# Altium integrated library AD Power Mgt DC-DC Converter.IntLib: 16 symbols
Pins are listed as number, name and electrical type; pins without a type are passive.

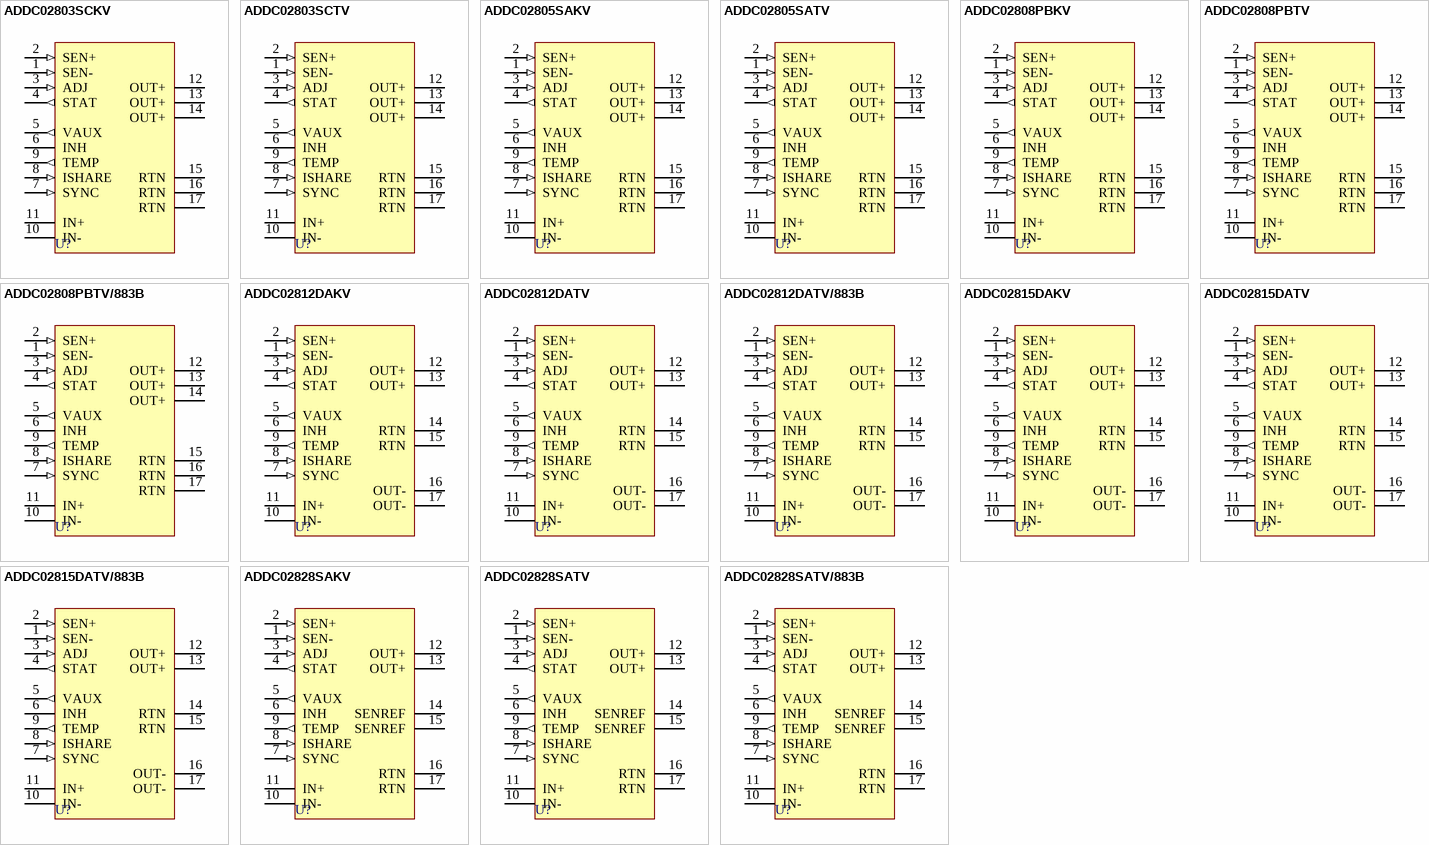
[diagram p0: symbols ADDC02803SCKV to ADDC02828SATV/883B]

## ADDC02803SCKV
designator U?
28 V/66 W/100 W DC/DC Converter with Integral EMI Filter; Published: 8-Jun-2000; LatestRevisionDate: 17-Jul-2002; LatestRevisionNote: Re-released for DXP Platform.; DatasheetVersion: REV.0 1997; PackageReference: DFM-W17; Publisher: Altium Limited; PackageDescription: DC/DC Converter; 17 pins; Body 70 x 38 mm; ComponentLink1Description: Manufacturer Link; ComponentLink1URL: http://www.analog.com/; ComponentLink2Description: Discontinuation Notice; ComponentLink2URL: http://www.analog.com/en/prod/0%2C2877%2CADDC02803SC%2C00.html
footprint DFM-W17 (DC/DC Converter; 17 pins; Body 70 x 38 mm)
pins: 1 SEN- (in), 2 SEN+ (in), 3 ADJ (in), 4 STAT (out), 5 VAUX (out), 6 INH, 7 SYNC (in), 8 ISHARE (in), 9 TEMP (out), 10 IN- (power), 11 IN+ (power), 12 OUT+ (power), 13 OUT+ (power), 14 OUT+ (power), 15 RTN (power), 16 RTN (power), 17 RTN (power)

## ADDC02803SCTV
designator U?
28 V/66 W/100 W DC/DC Converter with Integral EMI Filter; Published: 8-Jun-2000; LatestRevisionDate: 17-Jul-2002; LatestRevisionNote: Re-released for DXP Platform.; DatasheetVersion: REV.0 1997; PackageReference: DFM-W17; Publisher: Altium Limited; PackageDescription: DC/DC Converter; 17 pins; Body 70 x 38 mm; ComponentLink1Description: Manufacturer Link; ComponentLink1URL: http://www.analog.com/; ComponentLink2Description: Discontinuation Notice; ComponentLink2URL: http://www.analog.com/en/prod/0%2C2877%2CADDC02803SC%2C00.html
footprint DFM-W17 (DC/DC Converter; 17 pins; Body 70 x 38 mm)
pins: 1 SEN- (in), 2 SEN+ (in), 3 ADJ (in), 4 STAT (out), 5 VAUX (out), 6 INH, 7 SYNC (in), 8 ISHARE (in), 9 TEMP (out), 10 IN- (power), 11 IN+ (power), 12 OUT+ (power), 13 OUT+ (power), 14 OUT+ (power), 15 RTN (power), 16 RTN (power), 17 RTN (power)

## ADDC02805SAKV
designator U?
28 V/66 W/100 W DC/DC Converter with Integral EMI Filter; Published: 8-Jun-2000; LatestRevisionDate: 17-Jul-2002; LatestRevisionNote: Re-released for DXP Platform.; DatasheetVersion: REV.0 1997; PackageReference: DFM-W17; Publisher: Altium Limited; PackageDescription: DC/DC Converter; 17 pins; Body 70 x 38 mm; ComponentLink1Description: Manufacturer Link; ComponentLink1URL: http://www.analog.com/; ComponentLink2Description: Discontinuation Notice; ComponentLink2URL: http://www.analog.com/en/prod/0%2C2877%2CADDC02803SC%2C00.html
footprint DFM-W17 (DC/DC Converter; 17 pins; Body 70 x 38 mm)
pins: 1 SEN- (in), 2 SEN+ (in), 3 ADJ (in), 4 STAT (out), 5 VAUX (out), 6 INH, 7 SYNC (in), 8 ISHARE (in), 9 TEMP (out), 10 IN- (power), 11 IN+ (power), 12 OUT+ (power), 13 OUT+ (power), 14 OUT+ (power), 15 RTN (power), 16 RTN (power), 17 RTN (power)

## ADDC02805SATV
designator U?
28 V/66 W/100 W DC/DC Converter with Integral EMI Filter; Published: 8-Jun-2000; LatestRevisionDate: 17-Jul-2002; LatestRevisionNote: Re-released for DXP Platform.; DatasheetVersion: REV.0 1997; PackageReference: DFM-W17; Publisher: Altium Limited; PackageDescription: DC/DC Converter; 17 pins; Body 70 x 38 mm; ComponentLink1Description: Manufacturer Link; ComponentLink1URL: http://www.analog.com/; ComponentLink2Description: Discontinuation Notice; ComponentLink2URL: http://www.analog.com/en/prod/0%2C2877%2CADDC02803SC%2C00.html
footprint DFM-W17 (DC/DC Converter; 17 pins; Body 70 x 38 mm)
pins: 1 SEN- (in), 2 SEN+ (in), 3 ADJ (in), 4 STAT (out), 5 VAUX (out), 6 INH, 7 SYNC (in), 8 ISHARE (in), 9 TEMP (out), 10 IN- (power), 11 IN+ (power), 12 OUT+ (power), 13 OUT+ (power), 14 OUT+ (power), 15 RTN (power), 16 RTN (power), 17 RTN (power)

## ADDC02808PBKV
designator U?
28V, 200 W Pulsed DC/DC Converter with Integral EMI Filter; Published: 8-Jun-2000; LatestRevisionDate: 17-Jul-2002; LatestRevisionNote: Re-released for DXP Platform.; DatasheetVersion: REV.0 1996; PackageReference: DFM-W17; Publisher: Altium Limited; PackageDescription: DC/DC Converter; 17 pins; Body 70 x 38 mm; ComponentLink1Description: Manufacturer Link; ComponentLink1URL: http://www.analog.com/; ComponentLink2Description: Datasheet; ComponentLink2URL: http://www.analog.com/UploadedFiles/Obsolete_Data_Sheets/1352261ADDC02808OPB.pdf; ComponentLink3Description: Discontinuation Notice; ComponentLink3URL: http://www.analog.com/en/prod/0%2C2877%2CADDC02808PB%2C00.html
footprint DFM-W17 (DC/DC Converter; 17 pins; Body 70 x 38 mm)
pins: 1 SEN- (in), 2 SEN+ (in), 3 ADJ (in), 4 STAT (out), 5 VAUX (out), 6 INH, 7 SYNC (in), 8 ISHARE (in), 9 TEMP (out), 10 IN- (power), 11 IN+ (power), 12 OUT+ (power), 13 OUT+ (power), 14 OUT+ (power), 15 RTN (power), 16 RTN (power), 17 RTN (power)

## ADDC02808PBTV
designator U?
28V, 200 W Pulsed DC/DC Converter with Integral EMI Filter; Published: 8-Jun-2000; LatestRevisionDate: 17-Jul-2002; LatestRevisionNote: Re-released for DXP Platform.; DatasheetVersion: REV.0 1996; PackageReference: DFM-W17; Publisher: Altium Limited; PackageDescription: DC/DC Converter; 17 pins; Body 70 x 38 mm; ComponentLink1Description: Manufacturer Link; ComponentLink1URL: http://www.analog.com/; ComponentLink2Description: Datasheet; ComponentLink2URL: http://www.analog.com/UploadedFiles/Obsolete_Data_Sheets/1352261ADDC02808OPB.pdf; ComponentLink3Description: Discontinuation Notice; ComponentLink3URL: http://www.analog.com/en/prod/0%2C2877%2CADDC02808PB%2C00.html
footprint DFM-W17 (DC/DC Converter; 17 pins; Body 70 x 38 mm)
pins: 1 SEN- (in), 2 SEN+ (in), 3 ADJ (in), 4 STAT (out), 5 VAUX (out), 6 INH, 7 SYNC (in), 8 ISHARE (in), 9 TEMP (out), 10 IN- (power), 11 IN+ (power), 12 OUT+ (power), 13 OUT+ (power), 14 OUT+ (power), 15 RTN (power), 16 RTN (power), 17 RTN (power)

## ADDC02808PBTV/883B
designator U?
28V, 200 W Pulsed DC/DC Converter with Integral EMI Filter; Published: 8-Jun-2000; LatestRevisionDate: 17-Jul-2002; LatestRevisionNote: Re-released for DXP Platform.; DatasheetVersion: REV.0 1996; PackageReference: DFM-W17; Publisher: Altium Limited; PackageDescription: DC/DC Converter; 17 pins; Body 70 x 38 mm; ComponentLink1Description: Manufacturer Link; ComponentLink1URL: http://www.analog.com/; ComponentLink2Description: Datasheet; ComponentLink2URL: http://www.analog.com/UploadedFiles/Obsolete_Data_Sheets/1352261ADDC02808OPB.pdf; ComponentLink3Description: Discontinuation Notice; ComponentLink3URL: http://www.analog.com/en/prod/0%2C2877%2CADDC02808PB%2C00.html
footprint DFM-W17 (DC/DC Converter; 17 pins; Body 70 x 38 mm)
pins: 1 SEN- (in), 2 SEN+ (in), 3 ADJ (in), 4 STAT (out), 5 VAUX (out), 6 INH, 7 SYNC (in), 8 ISHARE (in), 9 TEMP (out), 10 IN- (power), 11 IN+ (power), 12 OUT+ (power), 13 OUT+ (power), 14 OUT+ (power), 15 RTN (power), 16 RTN (power), 17 RTN (power)

## ADDC02812DAKV
designator U?
28 V/100 W DC/DC Converter with Integral EMI Filter; Published: 8-Jun-2000; LatestRevisionDate: 17-Jul-2002; LatestRevisionNote: Re-released for DXP Platform.; DatasheetVersion: REV.A 1997; PackageReference: DFM-W17; Publisher: Altium Limited; PackageDescription: DC/DC Converter; 17 pins; Body 70 x 38 mm; ComponentLink1Description: Manufacturer Link; ComponentLink1URL: http://www.analog.com/; ComponentLink2Description: Datasheet; ComponentLink2URL: http://www.analog.com/UploadedFiles/Obsolete_Data_Sheets/416164ADDC02815DA.pdf; ComponentLink3Description: Discontinuation Notice; ComponentLink3URL: http://www.analog.com/en/prod/0%2C2877%2CADDC02815DA%2C00.html
footprint DFM-W17 (DC/DC Converter; 17 pins; Body 70 x 38 mm)
pins: 1 SEN- (in), 2 SEN+ (in), 3 ADJ (in), 4 STAT (out), 5 VAUX (out), 6 INH, 7 SYNC (in), 8 ISHARE (in), 9 TEMP (out), 10 IN- (power), 11 IN+ (power), 12 OUT+ (power), 13 OUT+ (power), 14 RTN (power), 15 RTN (power), 16 OUT- (power), 17 OUT- (power)

## ADDC02812DATV
designator U?
28 V/100 W DC/DC Converter with Integral EMI Filter; Published: 8-Jun-2000; LatestRevisionDate: 17-Jul-2002; LatestRevisionNote: Re-released for DXP Platform.; DatasheetVersion: REV.A 1997; PackageReference: DFM-W17; Publisher: Altium Limited; PackageDescription: DC/DC Converter; 17 pins; Body 70 x 38 mm; ComponentLink1Description: Manufacturer Link; ComponentLink1URL: http://www.analog.com/; ComponentLink2Description: Datasheet; ComponentLink2URL: http://www.analog.com/UploadedFiles/Obsolete_Data_Sheets/416164ADDC02815DA.pdf; ComponentLink3Description: Discontinuation Notice; ComponentLink3URL: http://www.analog.com/en/prod/0%2C2877%2CADDC02815DA%2C00.html
footprint DFM-W17 (DC/DC Converter; 17 pins; Body 70 x 38 mm)
pins: 1 SEN- (in), 2 SEN+ (in), 3 ADJ (in), 4 STAT (out), 5 VAUX (out), 6 INH, 7 SYNC (in), 8 ISHARE (in), 9 TEMP (out), 10 IN- (power), 11 IN+ (power), 12 OUT+ (power), 13 OUT+ (power), 14 RTN (power), 15 RTN (power), 16 OUT- (power), 17 OUT- (power)

## ADDC02812DATV/883B
designator U?
28 V/100 W DC/DC Converter with Integral EMI Filter; Published: 8-Jun-2000; LatestRevisionDate: 17-Jul-2002; LatestRevisionNote: Re-released for DXP Platform.; DatasheetVersion: REV.A 1997; PackageReference: DFM-W17; Publisher: Altium Limited; PackageDescription: DC/DC Converter; 17 pins; Body 70 x 38 mm; ComponentLink1Description: Manufacturer Link; ComponentLink1URL: http://www.analog.com/; ComponentLink2Description: Datasheet; ComponentLink2URL: http://www.analog.com/UploadedFiles/Obsolete_Data_Sheets/416164ADDC02815DA.pdf; ComponentLink3Description: Discontinuation Notice; ComponentLink3URL: http://www.analog.com/en/prod/0%2C2877%2CADDC02815DA%2C00.html
footprint DFM-W17 (DC/DC Converter; 17 pins; Body 70 x 38 mm)
pins: 1 SEN- (in), 2 SEN+ (in), 3 ADJ (in), 4 STAT (out), 5 VAUX (out), 6 INH, 7 SYNC (in), 8 ISHARE (in), 9 TEMP (out), 10 IN- (power), 11 IN+ (power), 12 OUT+ (power), 13 OUT+ (power), 14 RTN (power), 15 RTN (power), 16 OUT- (power), 17 OUT- (power)

## ADDC02815DAKV
designator U?
28 V/100 W DC/DC Converter with Integral EMI Filter; Published: 8-Jun-2000; LatestRevisionDate: 17-Jul-2002; LatestRevisionNote: Re-released for DXP Platform.; DatasheetVersion: REV.A 1997; PackageReference: DFM-W17; Publisher: Altium Limited; PackageDescription: DC/DC Converter; 17 pins; Body 70 x 38 mm; ComponentLink1Description: Manufacturer Link; ComponentLink1URL: http://www.analog.com/; ComponentLink2Description: Datasheet; ComponentLink2URL: http://www.analog.com/UploadedFiles/Obsolete_Data_Sheets/416164ADDC02815DA.pdf; ComponentLink3Description: Discontinuation Notice; ComponentLink3URL: http://www.analog.com/en/prod/0%2C2877%2CADDC02815DA%2C00.html
footprint DFM-W17 (DC/DC Converter; 17 pins; Body 70 x 38 mm)
pins: 1 SEN- (in), 2 SEN+ (in), 3 ADJ (in), 4 STAT (out), 5 VAUX (out), 6 INH, 7 SYNC (in), 8 ISHARE (in), 9 TEMP (out), 10 IN- (power), 11 IN+ (power), 12 OUT+ (power), 13 OUT+ (power), 14 RTN (power), 15 RTN (power), 16 OUT- (power), 17 OUT- (power)

## ADDC02815DATV
designator U?
28 V/100 W DC/DC Converter with Integral EMI Filter; Published: 8-Jun-2000; LatestRevisionDate: 17-Jul-2002; LatestRevisionNote: Re-released for DXP Platform.; DatasheetVersion: REV.A 1997; PackageReference: DFM-W17; Publisher: Altium Limited; PackageDescription: DC/DC Converter; 17 pins; Body 70 x 38 mm; ComponentLink1Description: Manufacturer Link; ComponentLink1URL: http://www.analog.com/; ComponentLink2Description: Datasheet; ComponentLink2URL: http://www.analog.com/UploadedFiles/Obsolete_Data_Sheets/416164ADDC02815DA.pdf; ComponentLink3Description: Discontinuation Notice; ComponentLink3URL: http://www.analog.com/en/prod/0%2C2877%2CADDC02815DA%2C00.html
footprint DFM-W17 (DC/DC Converter; 17 pins; Body 70 x 38 mm)
pins: 1 SEN- (in), 2 SEN+ (in), 3 ADJ (in), 4 STAT (out), 5 VAUX (out), 6 INH, 7 SYNC (in), 8 ISHARE (in), 9 TEMP (out), 10 IN- (power), 11 IN+ (power), 12 OUT+ (power), 13 OUT+ (power), 14 RTN (power), 15 RTN (power), 16 OUT- (power), 17 OUT- (power)

## ADDC02815DATV/883B
designator U?
28 V/100 W DC/DC Converter with Integral EMI Filter; Published: 8-Jun-2000; LatestRevisionDate: 17-Jul-2002; LatestRevisionNote: Re-released for DXP Platform.; DatasheetVersion: REV.A 1997; PackageReference: DFM-W17; Publisher: Altium Limited; PackageDescription: DC/DC Converter; 17 pins; Body 70 x 38 mm; ComponentLink1Description: Manufacturer Link; ComponentLink1URL: http://www.analog.com/; ComponentLink2Description: Datasheet; ComponentLink2URL: http://www.analog.com/UploadedFiles/Obsolete_Data_Sheets/416164ADDC02815DA.pdf; ComponentLink3Description: Discontinuation Notice; ComponentLink3URL: http://www.analog.com/en/prod/0%2C2877%2CADDC02815DA%2C00.html
footprint DFM-W17 (DC/DC Converter; 17 pins; Body 70 x 38 mm)
pins: 1 SEN- (in), 2 SEN+ (in), 3 ADJ (in), 4 STAT (out), 5 VAUX (out), 6 INH, 7 SYNC (in), 8 ISHARE (in), 9 TEMP (out), 10 IN- (power), 11 IN+ (power), 12 OUT+ (power), 13 OUT+ (power), 14 RTN (power), 15 RTN (power), 16 OUT- (power), 17 OUT- (power)

## ADDC02828SAKV
designator U?
28V/100 W DC/DC Converter with Integral EMI Filter; ComponentAvailability: Obsolete; Published: 8-Jun-2000; LatestRevisionDate: 17-Jul-2002; LatestRevisionNote: Re-released for DXP Platform.; DatasheetVersion: REV.0 1997; PackageReference: DFM-W17; Publisher: Altium Limited; PackageDescription: DC/DC Converter; 17 pins; Body 70 x 38 mm; ComponentLink1Description: Manufacturer Link; ComponentLink1URL: http://www.analog.com/; ComponentLink2Description: Datasheet; ComponentLink2URL: http://www.analog.com/UploadedFiles/Obsolete_Data_Sheets/1359999ADDC02828SA.pdf
footprint DFM-W17 (DC/DC Converter; 17 pins; Body 70 x 38 mm)
pins: 1 SEN- (in), 2 SEN+ (in), 3 ADJ (in), 4 STAT (out), 5 VAUX (out), 6 INH, 7 SYNC (in), 8 ISHARE (in), 9 TEMP (out), 10 IN- (power), 11 IN+ (power), 12 OUT+ (power), 13 OUT+ (power), 14 SENREF (power), 15 SENREF (power), 16 RTN (power), 17 RTN (power)

## ADDC02828SATV
designator U?
28V/100 W DC/DC Converter with Integral EMI Filter; ComponentAvailability: Obsolete; Published: 8-Jun-2000; LatestRevisionDate: 17-Jul-2002; LatestRevisionNote: Re-released for DXP Platform.; DatasheetVersion: REV.0 1997; PackageReference: DFM-W17; Publisher: Altium Limited; PackageDescription: DC/DC Converter; 17 pins; Body 70 x 38 mm; ComponentLink1Description: Manufacturer Link; ComponentLink1URL: http://www.analog.com/; ComponentLink2Description: Datasheet; ComponentLink2URL: http://www.analog.com/UploadedFiles/Obsolete_Data_Sheets/1359999ADDC02828SA.pdf
footprint DFM-W17 (DC/DC Converter; 17 pins; Body 70 x 38 mm)
pins: 1 SEN- (in), 2 SEN+ (in), 3 ADJ (in), 4 STAT (out), 5 VAUX (out), 6 INH, 7 SYNC (in), 8 ISHARE (in), 9 TEMP (out), 10 IN- (power), 11 IN+ (power), 12 OUT+ (power), 13 OUT+ (power), 14 SENREF (power), 15 SENREF (power), 16 RTN (power), 17 RTN (power)

## ADDC02828SATV/883B
designator U?
28V/100 W DC/DC Converter with Integral EMI Filter; ComponentAvailability: Obsolete; Published: 8-Jun-2000; LatestRevisionDate: 17-Jul-2002; LatestRevisionNote: Re-released for DXP Platform.; DatasheetVersion: REV.0 1997; PackageReference: DFM-W17; Publisher: Altium Limited; PackageDescription: DC/DC Converter; 17 pins; Body 70 x 38 mm; ComponentLink1Description: Manufacturer Link; ComponentLink1URL: http://www.analog.com/; ComponentLink2Description: Datasheet; ComponentLink2URL: http://www.analog.com/UploadedFiles/Obsolete_Data_Sheets/1359999ADDC02828SA.pdf
footprint DFM-W17 (DC/DC Converter; 17 pins; Body 70 x 38 mm)
pins: 1 SEN- (in), 2 SEN+ (in), 3 ADJ (in), 4 STAT (out), 5 VAUX (out), 6 INH, 7 SYNC (in), 8 ISHARE (in), 9 TEMP (out), 10 IN- (power), 11 IN+ (power), 12 OUT+ (power), 13 OUT+ (power), 14 SENREF (power), 15 SENREF (power), 16 RTN (power), 17 RTN (power)